# Altium footprint library ARKLED_SM453001L.PcbLib: 1 footprints
Each footprint in its own frame and in the unit in brackets; x right, y up, seen from the top. Pads: shape width x height; smd on the part's side, far side on the other; paste and mask are expansions set on the pad; w line width, h text height; cw(c..) or ccw(c..) is an arc to the next point about the centre after c.
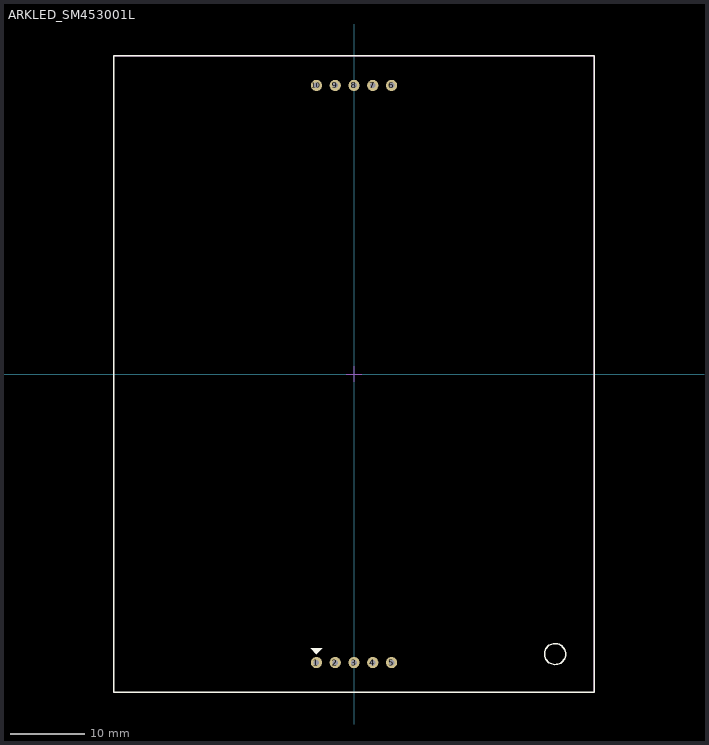
[diagram p0: the footprint, top view; thin cyan lines are the x and y axes]

## ARKLED_SM453001L [mil]
pads (10):
  round 60 hole 30: 1(-200,-1535.43) 2(-100,-1535.43) 3(0,-1535.43) 4(100,-1535.43) 5(200,-1535.43) 6(200,1535.43) 7(100,1535.43) 8(0,1535.43) 9(-100,1535.43) 10(-200,1535.43)
Top Overlay:
  circle w7.87: c1070,-1490 r55.9
  region: -200,-1490 -170,-1460 -230,-1460
  lines w7.87: -1279.53,-1692.91 1279.53,-1692.91 1279.53,1692.91 -1279.53,1692.91 -1279.53,-1692.91
Mechanical 15:
  lines w1.97: -40,0 40,0 ; 0,-40 0,40 ; -1279.53,-1692.91 1279.53,-1692.91 1279.53,1692.91 -1279.53,1692.91 -1279.53,-1692.91
3D body: height 472.44, standoff 0, extent -1279.53,-1692.91 1279.53,1692.91
3D body: height 477.44, standoff 5, extent 970,-1585 1170,-1385
3D body: height 477.44, standoff 15, extent -720,-80 720,80
3D body: height 477.44, standoff 15, extent -920,20 -760,1460
3D body: height 477.44, standoff 15, extent 760,20 920,1460
3D body: height 477.44, standoff 15, extent 760,-1460 920,-20
3D body: height 477.44, standoff 15, extent -920,-1460 -760,-20
3D body: height 477.44, standoff 15, extent -720,1380 720,1540
3D body: height 477.44, standoff 15, extent -720,-1540 720,-1380